# EAGLE library part XRA1200 (library custom)
I2C IO Expander 8 IO Open Drain 1.65-3.6V
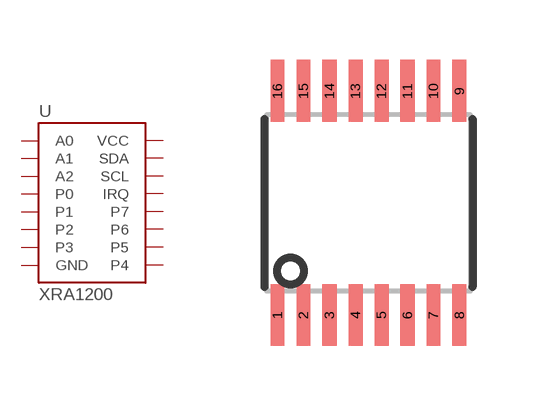
[diagram p92: symbol with the pads of 16-SSOP; footprint 16-SSOP]

Designator prefix U

## XRA1200  [16-SSOP]
1  A0
2  A1
3  A2
4  P0
5  P1
6  P2
7  P3
8  GND
9  P4
10  P5
11  P6
12  P7
13  IRQ
14  SCL
15  SDA
16  VCC

## Footprint 16-SSOP (pad centres in mm)
smd 0.35 x 1.55: 1 -2.275,-2.8; 2 -1.625,-2.8; 3 -0.975,-2.8; 4 -0.325,-2.8; 5 0.325,-2.8; 6 0.975,-2.8; 7 1.625,-2.8; 8 2.275,-2.8; 9 2.275,2.8; 10 1.625,2.8; 11 0.975,2.8; 12 0.325,2.8; 13 -0.325,2.8; 14 -0.975,2.8; 15 -1.625,2.8; 16 -2.275,2.8